# Altium footprint library EL.XXX.T01.PcbLib: 92 footprints (part 4 of 6)
Each footprint in its own frame and in the unit in brackets; x right, y up, seen from the top. Pads: shape width x height; smd on the part's side, far side on the other; paste and mask are expansions set on the pad; w line width, h text height; cw(c..) or ccw(c..) is an arc to the next point about the centre after c.
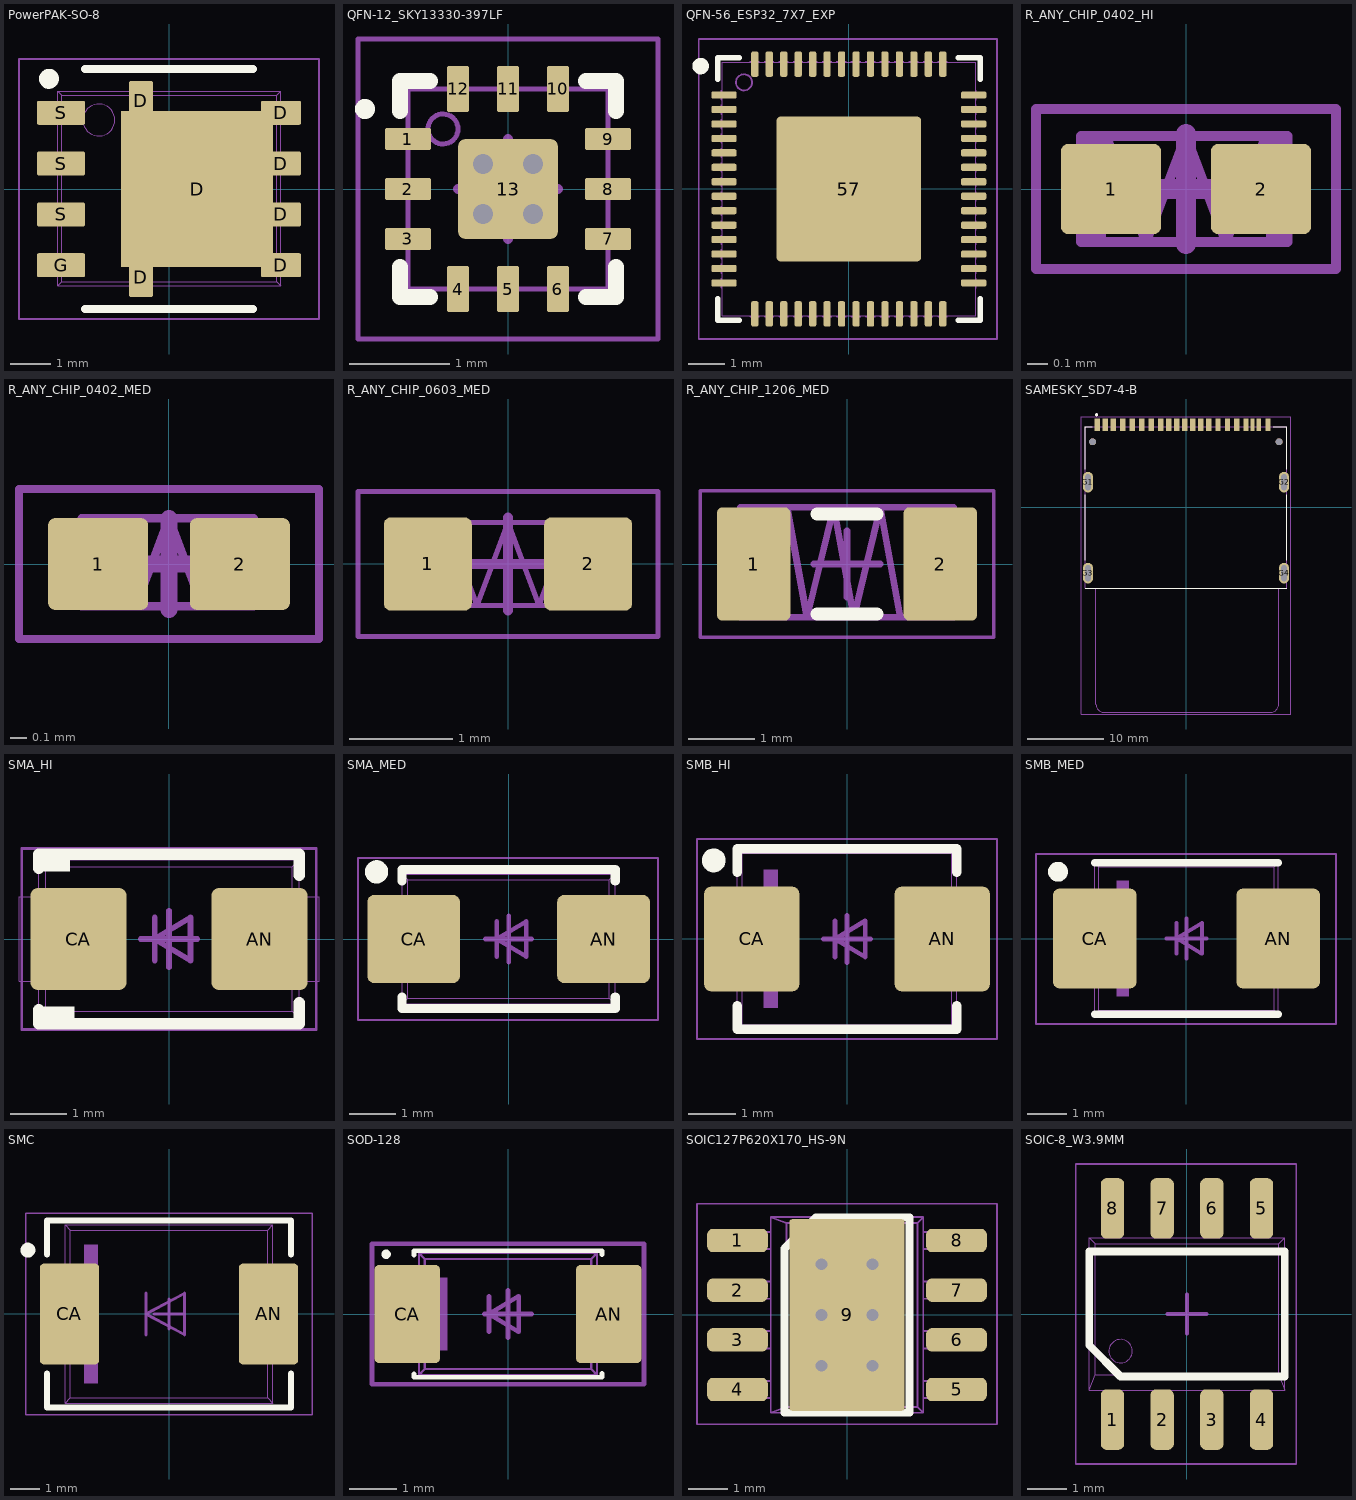
[diagram p3: the footprints below, top view; thin cyan lines are the x and y axes]

## PowerPAK-SO-8 [mm]
pads (11):
  rrect15% 0.6x1 smd mask+0.05: D(-0.7,-2.2) D(-0.7,2.2)
  rect 3.8x3.9 smd paste-2 mask+0.05: D(0.7,0)
  rrect15% 1x0.6 smd mask+0.05: D(2.8,-1.905) D(2.8,-0.635) D(2.8,0.635) D(2.8,1.905)
  rrect15% 1.2x0.6 smd mask+0.05: G(-2.7,-1.905) S(-2.7,-0.635) S(-2.7,0.635) S(-2.7,1.905)
Top Overlay:
  circle w0.25: c-3,2.755 r0.125
  lines w0.2: -2.1,-3 2.1,-3 ; -2.1,3 2.1,3
Top Paste:
  rectangle: 0.8,0.15 2.6,1.95
  rectangle: 0.8,-1.951 2.6,-0.151
  rectangle: -1.2,-1.95 0.6,-0.15
  rectangle: -1.2,0.15 0.6,1.95
Top Courtyard:
  lines w0.05: -3.75,-3.25 3.75,-3.25 3.75,3.25 -3.75,3.25 -3.75,-3.25
  lines w0.1: -0.5,0 0.5,0 ; 0,-0.5 0,0.5
Top Designator:
  text ".Designator" at -1.75,4.325 h0.5
Top Assembly:
  circle w0.025: c-1.756,1.725 r0.4
  lines w0.025: -2.775,-2.105 -2.875,-2.105 -2.875,-1.705 -2.775,-1.705 ; -2.775,-0.835 -2.875,-0.835 -2.875,-0.435 -2.775,-0.435 ; -2.775,0.435 -2.875,0.435 -2.875,0.835 -2.775,0.835 ; -2.775,1.705 -2.875,1.705 -2.875,2.105 -2.775,2.105 ; -2.725,2.4 -2.675,2.35 ; -0.725,-2.425 -0.725,-2.625 -0.475,-2.625 -0.475,-2.425 ; -0.725,2.45 -0.725,2.65 -0.475,2.65 -0.475,2.45 ; 2.75,-2.375 2.7,-2.325 ; 2.8,-2.105 2.9,-2.105 2.9,-1.705 2.8,-1.705 ; 2.8,-0.835 2.9,-0.835 2.9,-0.435 2.8,-0.435 ; 2.8,0.435 2.9,0.435 2.9,0.835 2.8,0.835 ; 2.8,1.705 2.9,1.705 2.9,2.105 2.8,2.105 ; -2.775,-2.425 2.8,-2.425 ; -2.775,-2.425 -2.775,2.45 ; -2.775,-2.425 -2.675,-2.325 ; -2.775,2.45 2.8,2.45 ; -2.775,2.45 -2.675,2.35 ; -2.675,-2.325 2.7,-2.325 ; -2.675,-2.325 -2.675,2.35 ; -2.675,2.35 2.7,2.35 ; 2.7,-2.325 2.7,2.35 ; 2.7,-2.325 2.8,-2.425 ; 2.7,2.35 2.8,2.45 ; 2.8,-2.425 2.8,2.45
Top Value:
  text ".Comment" at -1.75,3.725 h0.5
3D body "Si7141DP.STEP": height 1.05, standoff 0.01, extent -3.075,-2.575 3.075,2.575

## QFN-12_SKY13330-397LF [mm]
pads (13):
  rrect15% 0.46x0.22 smd mask+0.05: 1(-1,0.5) 2(-1,0) 3(-1,-0.5) 7(1,-0.5) 8(1,0) 9(1,0.5)
  rrect15% 0.22x0.46 smd mask+0.05: 4(-0.5,-1) 5(0,-1) 6(0.5,-1) 10(0.5,1) 11(0,1) 12(-0.5,1)
  rrect15% 1x1 smd paste-0.15 mask+0.05: 13(0,0)
via -0.25,-0.25 diameter 0.45 hole 0.2
via 0.25,-0.25 diameter 0.45 hole 0.2
via 0.25,0.25 diameter 0.45 hole 0.2
via -0.25,0.25 diameter 0.45 hole 0.2
Top Overlay:
  circle w0.1: c-1.43,0.8 r0.05
  lines w0.16: -1.08,-0.78 -1.08,-1.08 -0.78,-1.08 ; -1.08,0.78 -1.08,1.08 -0.78,1.08 ; 0.78,-1.08 1.08,-1.08 1.08,-0.78 ; 0.78,1.08 1.08,1.08 1.08,0.78
Bottom Solder:
  region: 0.425,-0.55 -0.425,-0.55 -0.431,-0.55 -0.443,-0.549 -0.455,-0.547 -0.467,-0.543 -0.478,-0.538 -0.489,-0.533 -0.499,-0.526 -0.509,-0.518 -0.518,-0.509 -0.525,-0.5 -0.532,-0.49 -0.538,-0.479 -0.543,-0.467 -0.546,-0.456 -0.549,-0.444 -0.55,-0.431 -0.55,-0.425 -0.55,0.425 -0.55,0.431 -0.549,0.443 -0.546,0.455 -0.543,0.467 -0.538,0.478 -0.532,0.489 -0.526,0.499 -0.518,0.509 -0.509,0.518 -0.5,0.525 -0.49,0.532 -0.479,0.538 -0.467,0.543 -0.456,0.546 -0.444,0.548 -0.432,0.55 -0.425,0.55 0.426,0.55 0.432,0.55 0.444,0.548 0.456,0.546 0.468,0.543 0.479,0.538 0.49,0.532 0.5,0.525 0.509,0.518 0.518,0.509 0.526,0.5 0.532,0.489 0.538,0.479 0.543,0.467 0.546,0.456 0.549,0.444 0.55,0.432 0.55,0.425 0.55,-0.425 0.55,-0.432 0.549,-0.444 0.546,-0.456 0.543,-0.468 0.538,-0.479 0.532,-0.49 0.526,-0.5 0.518,-0.509 0.509,-0.518 0.5,-0.526 0.489,-0.533 0.479,-0.538 0.467,-0.543 0.456,-0.547 0.444,-0.549 0.431,-0.55
Top Courtyard:
  lines w0.05: -1.5,-1.5 1.5,-1.5 1.5,1.5 -1.5,1.5 -1.5,-1.5
  lines w0.1: -0.5,0 0.5,0 ; 0,-0.5 0,0.5
Top Designator:
  text ".Designator" at -1.71,2.331 h0.5
Top Assembly:
  circle w0.05: c-0.65,0.6 r0.15
  lines w0.05: -1,-1 1,-1 1,1 -1,1 -1,-1
Top Value:
  text ".Comment" at -1.72,1.722 h0.5
3D body "QFN50P200X200X60_HS-13N.step": height 0.6, standoff 0, extent -1.02,-1.02 1.02,1.02

## QFN-56_ESP32_7X7_EXP [mm]
pads (57):
  rrect50% 0.7x0.2 smd paste+0 mask+0.05: 1(-3.454,2.6) 2(-3.454,2.2) 3(-3.454,1.8) 4(-3.454,1.4) 5(-3.454,1) 6(-3.454,0.6) 7(-3.454,0.2) 8(-3.454,-0.2) 9(-3.454,-0.6) 10(-3.454,-1) 11(-3.454,-1.4) 12(-3.454,-1.8) 13(-3.454,-2.2) 14(-3.454,-2.6) 29(3.454,-2.6) 30(3.454,-2.2) 31(3.454,-1.8) 32(3.454,-1.4) 33(3.454,-1) 34(3.454,-0.6) 35(3.454,-0.2) 36(3.454,0.2) 37(3.454,0.6) 38(3.454,1) 39(3.454,1.4) 40(3.454,1.8) 41(3.454,2.2) 42(3.454,2.6)
  rrect50% 0.2x0.7 smd paste+0 mask+0.05: 15(-2.6,-3.454) 16(-2.2,-3.454) 17(-1.8,-3.454) 18(-1.4,-3.454) 19(-1,-3.454) 20(-0.6,-3.454) 21(-0.2,-3.454) 22(0.2,-3.454) 23(0.6,-3.454) 24(1,-3.454) 25(1.4,-3.454) 26(1.8,-3.454) 27(2.2,-3.454) 28(2.6,-3.454) 43(2.6,3.454) 44(2.2,3.454) 45(1.8,3.454) 46(1.4,3.454) 47(1,3.454) 48(0.6,3.454) 49(0.2,3.454) 50(-0.2,3.454) 51(-0.6,3.454) 52(-1,3.454) 53(-1.4,3.454) 54(-1.8,3.454) 55(-2.2,3.454) 56(-2.6,3.454)
  rrect5% 4x4 smd paste-1.994 mask+0.05: 57(0,0)
Top Overlay:
  circle w0.254: c-4.1,3.4 r0.1
  lines w0.152: -3.632,-3.034 -3.632,-3.632 -3.034,-3.632 ; -3.632,3.034 -3.632,3.632 -3.034,3.632 ; 3.034,-3.632 3.632,-3.632 3.632,-3.034 ; 3.034,3.632 3.632,3.632 3.632,3.034
Top Paste:
  region: 1.907,-0.769 0.769,-0.769 0.769,-1.907 1.907,-1.907
  region: 1.907,0.569 0.769,0.569 0.769,-0.569 1.907,-0.569
  region: 1.907,1.907 0.769,1.907 0.769,0.769 1.907,0.769
  region: 0.569,-0.769 -0.569,-0.769 -0.569,-1.907 0.569,-1.907
  region: 0.569,0.569 -0.569,0.569 -0.569,-0.569 0.569,-0.569
  region: 0.569,1.907 -0.569,1.907 -0.569,0.769 0.569,0.769
  region: -0.769,-0.769 -1.907,-0.769 -1.907,-1.907 -0.769,-1.907
  region: -0.769,0.569 -1.907,0.569 -1.907,-0.569 -0.769,-0.569
  region: -0.769,1.907 -1.907,1.907 -1.907,0.769 -0.769,0.769
Top Courtyard:
  lines w0.05: -4.15,-4.15 4.1,-4.15 4.1,4.15 -4.15,4.15 -4.15,-4.15
  lines w0.1: -0.5,0 0.5,0 ; 0,-0.5 0,0.5
Top Designator:
  text ".Designator" at 0.223,-0.151 h0.5
Top Assembly:
  drawing of 229 lines, arcs and shapes, not listed
Top Value:
  text ".Comment" at 2.723,0.599 h0.5
3D body "QFN56_ESP32_7X7_EXP.step": height 0.89, standoff 0, extent -3.531,-3.531 3.531,3.531

## R_ANY_CHIP_0402_HI [mm]
pads (2):
  rrect15% 0.5x0.45 smd mask+0.05: 1(-0.375,0) 2(0.375,0)
Top Courtyard:
  lines w0.05: -0.75,-0.4 -0.75,0.4 0.75,0.4 0.75,-0.4 -0.75,-0.4
  lines w0.1: -0.275,0 0.275,0 ; 0,-0.275 0,0.275
Top Designator:
  text ".Designator" at -1.9,1.35 h0.5
Top Assembly:
  region: 0.525,0.265 0.4,0.265 0.4,-0.265 0.525,-0.265
  rectangle: -0.525,-0.265 -0.4,0.265
  lines w0.05: -0.4,0.265 -0.2,-0.265 0,0.265 0.2,-0.265 0.4,0.265 ; -0.525,-0.265 0.508,-0.265 0.508,0.265 -0.525,0.265 -0.525,-0.265
Top Value:
  text ".Comment" at -1.9,0.7 h0.5
3D body "RC0402.STEP": height 0.4, standoff 0, extent -0.525,-0.275 0.525,0.275

## R_ANY_CHIP_0402_MED [mm]
pads (2):
  rrect15% 0.6x0.55 smd mask+0.05: 1(-0.425,0) 2(0.425,0)
Top Courtyard:
  lines w0.05: -0.9,-0.45 -0.9,0.45 0.9,0.45 0.9,-0.45 -0.9,-0.45
  lines w0.1: -0.275,0 0.275,0 ; 0,-0.275 0,0.275
Top Designator:
  text ".Designator" at -1.85,1.25 h0.5
Top Assembly:
  region: 0.525,0.275 0.4,0.275 0.4,-0.254 0.525,-0.254
  rectangle: -0.525,-0.254 -0.4,0.275
  lines w0.05: -0.4,0.275 -0.2,-0.254 0,0.275 0.2,-0.254 0.4,0.275 ; -0.525,-0.254 0.508,-0.254 0.508,0.275 -0.525,0.275 -0.525,-0.254
Top Value:
  text ".Comment" at -1.85,0.65 h0.5
3D body "RC0402.STEP": height 0.4, standoff 0, extent -0.525,-0.275 0.525,0.275

## R_ANY_CHIP_0603_MED [mm]
pads (2):
  rrect15% 0.85x0.9 smd mask+0.05: 1(-0.775,0) 2(0.775,0)
Top Courtyard:
  lines w0.05: -1.45,-0.7 1.45,-0.7 1.45,0.7 -1.45,0.7 -1.45,-0.7
  lines w0.1: -0.45,0 0.45,0 ; 0,-0.45 0,0.45
Top Designator:
  text ".Designator" at -1.8,1.55 h0.5
Top Assembly:
  region: 0.925,0.4 0.7,0.4 0.7,-0.4 0.925,-0.4
  rectangle: -0.925,-0.4 -0.7,0.4
  lines w0.05: -0.6,0.4 -0.3,-0.4 0,0.4 0.3,-0.4 0.6,0.4 ; -0.9,-0.4 0.9,-0.4 0.9,0.4 -0.9,0.4 -0.9,-0.4
Top Value:
  text ".Comment" at -1.8,0.95 h0.5
3D body "RC0603.STEP": height 0.55, standoff 0, extent -0.85,-0.45 0.85,0.45

## R_ANY_CHIP_1206_MED [mm]
pads (2):
  rrect15% 1.1x1.7 smd: 1(-1.4,0) 2(1.4,0)
Top Overlay:
  lines w0.2: -0.45,-0.75 0.45,-0.75 ; -0.45,0.75 0.45,0.75
Top Courtyard:
  lines w0.05: -2.2,-1.1 2.2,-1.1 2.2,1.1 -2.2,1.1 -2.2,-1.1
  lines w0.1: -0.5,0 0.5,0 ; 0,-0.5 0,0.5
Top Designator:
  text ".Designator" at -1.8,1.95 h0.5
Top Assembly:
  rectangle: -1.6,-0.8 -1,0.85
  region: 1.6,0.85 1,0.85 1,-0.8 1.6,-0.8
  lines w0.1: -0.9,0.85 -0.6,-0.8 -0.2,0.85 0.1,-0.8 0.5,0.85 0.8,-0.8 ; -1.6,-0.8 -1.6,0.85 1.6,0.85 1.6,-0.8 -1.6,-0.8
Top Value:
  text ".Comment" at -1.8,1.3 h0.5
3D body "RC1206.STEP": height 0.65, standoff 0, extent -1.6,-0.85 1.6,0.85

## SAMESKY_SD7-4-B [mm]
height 5.87
pads (27):
  oval 1.3x2.7 hole 0.7 slot 2.1 at 90 deg: G1(-12.875,3.325) G2(12.875,3.325) G3(-12.875,-8.625) G4(12.875,-8.625)
  rect 0.7x1.65 smd: P1(-11.65,10.85) P2(-10.6,10.85) P3(-9.55,10.85) P4(-8.3,10.85) P5(-7.05,10.85) P6(-5.8,10.85) P7(-4.55,10.85) P8(-3.3,10.85) P9(-2.25,10.85) P10(-1.2,10.85) P11(-0.15,10.85) P12(0.9,10.85) P13(1.95,10.85) P14(3,10.85) P15(4.2,10.85) P16(5.45,10.85) P17(6.65,10.85) P21(10.78,10.85)
  rect 0.6x1.65 smd: P18(7.88,10.85) P20(9.58,10.85)
  rect 0.5x1.65 smd: P19(8.73,10.85)
  round 0.9 hole 0.9 unplated: ""(-12.27,8.625) ""(12.23,8.625)
Top Overlay:
  circle w0.2: c-11.75,12.175 r0.1
  lines w0.127: -13.225,-10.625 13.225,-10.625 ; -13.225,-6.955 -13.225,1.655 ; -13.225,4.995 -13.225,10.625 -12.32,10.625 ; 11.45,10.625 13.225,10.625 13.225,4.995 ; 13.225,-6.955 13.225,1.655
Mechanical 13:
  circle w0.2: c-11.75,12.175 r0.1
  lines w0.127: -11.825,-10.625 12.175,-10.625 ; -11.825,-10.625 -13.225,-10.625 -13.225,10.625 13.225,10.625 13.225,-10.625 12.175,-10.625 ; -11.825,-10.625 -11.825,-25.875 ccw(c-10.825,-25.875) -10.825,-26.875 11.175,-26.875 ccw(c11.175,-25.875) 12.175,-25.875 12.175,-10.625
Mechanical 15:
  lines w0.05: -13.775,-27.125 13.775,-27.125 13.775,11.925 -13.775,11.925 -13.775,-27.125
3D body: height 2.3, standoff 0, extent -13.335,-10.668 13.335,10.668

## SMA_HI [mm]
pads (2):
  rrect15% 1.7x1.8 smd mask+0.05: AN(1.6,0) CA(-1.6,0)
Top Overlay:
  region: -2.3,1.2 -1.75,1.2 -1.75,1.425 -2.3,1.425
  region: -2.225,-1.45 -1.675,-1.45 -1.675,-1.2 -2.225,-1.2
  lines w0.2: -2.3,-1.25 -2.3,-1.5 2.3,-1.5 2.3,-1.125 ; -2.3,1.25 -2.3,1.5 2.3,1.5 2.3,1.125
Top Courtyard:
  lines w0.05: -2.6,-1.6 -2.6,1.6 2.6,1.6 2.6,-1.6 -2.6,-1.6
  lines w0.1: -0.5,0 0.5,0 ; 0,-0.5 0,0.5
Top Designator:
  text ".Designator" at -1.8,2.375 h0.5
Top Assembly:
  region: -1.75,0.9 -1.75,-0.9 -1.45,-0.9 -1.45,0.9
  lines w0.01: -2.3,-0.75 -2.65,-0.75 -2.65,0.75 -2.3,0.75 ; 2.3,-0.75 2.65,-0.75 2.65,0.75 2.3,0.75 ; -2.3,-1.4 -2.3,1.4 ; -2.3,-1.4 2.3,-1.4 ; -2.3,-1.4 -2.175,-1.275 ; -2.3,1.4 2.3,1.4 ; -2.3,1.4 -2.175,1.275 ; -2.175,-1.275 2.175,-1.275 ; -2.175,-1.275 -2.175,1.275 ; -2.175,1.275 2.175,1.275 ; 2.175,-1.275 2.3,-1.4 ; 2.175,-1.275 2.175,1.275 ; 2.175,1.275 2.3,1.4 ; 2.3,-1.4 2.3,1.4
  lines w0.1: -0.254,-0.381 -0.254,0.381 ; -0.254,0 0.381,-0.381 0.381,0.381 -0.254,0
Top Value:
  text ".Comment" at -1.8,1.775 h0.5
3D body "SK56A-LTP_MED.step": height 2.44, standoff 0, extent -2.52,-1.46 2.52,1.46

## SMA_MED [mm]
pads (2):
  rrect15% 2x1.9 smd mask+0.05: AN(2.05,0) CA(-2.05,0)
Top Overlay:
  circle w0.25: c-2.85,1.45 r0.125
  lines w0.2: -2.3,-1.25 -2.3,-1.5 2.3,-1.5 2.3,-1.25 ; -2.3,1.25 -2.3,1.5 2.3,1.5 2.3,1.25
Top Courtyard:
  lines w0.05: -3.25,-1.75 -3.25,1.75 3.225,1.75 3.225,-1.75 -3.25,-1.75
  lines w0.1: -0.5,0 0.5,0 ; 0,-0.5 0,0.5
Top Designator:
  text ".Designator" at -2,2.6 h0.5
Top Assembly:
  region: -1.75,0.9 -1.75,-0.9 -1.45,-0.9 -1.45,0.9
  lines w0.01: -2.3,-0.75 -2.65,-0.75 -2.65,0.75 -2.3,0.75 ; 2.3,-0.75 2.65,-0.75 2.65,0.75 2.3,0.75 ; -2.3,-1.4 -2.3,1.4 ; -2.3,-1.4 2.3,-1.4 ; -2.3,-1.4 -2.175,-1.275 ; -2.3,1.4 2.3,1.4 ; -2.3,1.4 -2.175,1.275 ; -2.175,-1.275 2.175,-1.275 ; -2.175,-1.275 -2.175,1.275 ; -2.175,1.275 2.175,1.275 ; 2.175,-1.275 2.3,-1.4 ; 2.175,-1.275 2.175,1.275 ; 2.175,1.275 2.3,1.4 ; 2.3,-1.4 2.3,1.4
  lines w0.1: -0.254,-0.381 -0.254,0.381 ; -0.254,0 0.381,0.381 0.381,-0.381 -0.254,0
Top Value:
  text ".Comment" at -2,1.975 h0.5
3D body "SK56A-LTP_MED.step": height 2.44, standoff 0, extent -2.52,-1.46 2.52,1.46

## SMB_HI [mm]
pads (2):
  rrect15% 2x2.2 smd mask+0.05: AN(2,0) CA(-2,0)
Top Overlay:
  circle w0.25: c-2.8,1.65 r0.125
  lines w0.2: -2.3,-1.4 -2.3,-1.9 2.3,-1.9 2.3,-1.4 ; -2.3,1.4 -2.3,1.9 2.3,1.9 2.3,1.4
Top Courtyard:
  lines w0.05: -3.15,-2.1 -3.15,2.1 3.15,2.1 3.15,-2.1 -3.15,-2.1
  lines w0.1: -0.5,0 0.5,0 ; 0,-0.5 0,0.5
Top Designator:
  text ".Designator" at -1.725,3.025 h0.5
Top Assembly:
  region: -1.75,1.45 -1.75,-1.446 -1.45,-1.446 -1.45,1.45
  lines w0.025: -2.3,-1 -2.7,-1 -2.7,1 -2.3,1 ; 2.3,-1 2.7,-1 2.7,1 2.3,1 ; -2.3,-1.9 -2.3,1.9 ; -2.3,-1.9 2.3,-1.9 ; -2.3,-1.9 -2.2,-1.8 ; -2.3,1.9 2.3,1.9 ; -2.3,1.9 -2.2,1.8 ; -2.2,-1.8 2.2,-1.8 ; -2.2,-1.8 -2.2,1.8 ; -2.2,1.8 2.2,1.8 ; 2.2,-1.8 2.3,-1.9 ; 2.2,-1.8 2.2,1.8 ; 2.2,1.8 2.3,1.9 ; 2.3,-1.9 2.3,1.9
  lines w0.1: -0.25,-0.379 -0.25,0.383 ; -0.25,0.002 0.385,-0.379 0.385,0.383 -0.25,0.002
Top Value:
  text ".Comment" at -1.725,2.375 h0.5
3D body "DO214AA.STEP": height 2.65, standoff 0, extent -2.8,-1.95 2.8,1.95

## SMB_MED [mm]
pads (2):
  rrect15% 2.1x2.5 smd mask+0.05: AN(2.3,0) CA(-2.3,0)
Top Overlay:
  circle w0.25: c-3.225,1.675 r0.125
  lines w0.2: -2.3,-1.9 2.3,-1.9 ; -2.3,1.9 2.3,1.9
Top Courtyard:
  lines w0.05: -3.775,-2.15 3.75,-2.15 3.75,2.125 -3.775,2.125 -3.775,-2.15
  lines w0.1: -0.5,0.002 0.5,0.002 ; 0,-0.498 0,0.502
Top Designator:
  text ".Designator" at 0.5,-0.774 h0.5
Top Assembly:
  region: -1.75,1.45 -1.75,-1.446 -1.45,-1.446 -1.45,1.45
  lines w0.025: -2.3,-1 -2.7,-1 -2.7,1 -2.3,1 ; 2.3,-1 2.7,-1 2.7,1 2.3,1 ; -2.3,-1.9 -2.3,1.9 ; -2.3,-1.9 2.3,-1.9 ; -2.3,-1.9 -2.2,-1.8 ; -2.3,1.9 2.3,1.9 ; -2.3,1.9 -2.2,1.8 ; -2.2,-1.8 2.2,-1.8 ; -2.2,-1.8 -2.2,1.8 ; -2.2,1.8 2.2,1.8 ; 2.2,-1.8 2.3,-1.9 ; 2.2,-1.8 2.2,1.8 ; 2.2,1.8 2.3,1.9 ; 2.3,-1.9 2.3,1.9
  lines w0.1: -0.25,-0.379 -0.25,0.383 ; -0.25,0.002 0.385,-0.379 0.385,0.383 -0.25,0.002
Top Value:
  text ".Comment" at 0.75,1.226 h0.5
3D body "DO214AA.STEP": height 2.65, standoff 0, extent -2.8,-1.95 2.8,1.95

## SMC [mm]
pads (2):
  rrect15% 2x3.4 smd: AN(3.35,0) CA(-3.35,0)
Top Overlay:
  circle w0.25: c-4.75,2.15 r0.125
  lines w0.2: -4.1,-2 -4.1,-3.15 4.1,-3.15 4.1,-2 ; -4.1,2 -4.1,3.15 4.1,3.15 4.1,2
Top Courtyard:
  lines w0.05: -4.825,-3.4 4.825,-3.4 4.825,3.4 -4.825,3.4 -4.825,-3.4
  lines w0.1: -0.5,0 0.5,0 ; 0,-0.5 0,0.5
Top Designator:
  text ".Designator" at -2.025,4.5 h0.5
Top Assembly:
  region: -2.85,2.325 -2.85,-2.325 -2.4,-2.325 -2.4,2.325
  lines w0.01: -3.5,-1.6 -4,-1.6 -4,1.6 -3.5,1.6 ; 3.5,-1.6 4,-1.6 4,1.6 3.5,1.6 ; -3.5,-3 -3.325,-2.825 ; -3.5,-3 3.5,-3 ; -3.5,-3 -3.5,3 ; -3.5,3 -3.325,2.825 ; -3.5,3 3.5,3 ; -3.325,-2.825 3.325,-2.825 ; -3.325,-2.825 -3.325,2.825 ; -3.325,2.825 3.325,2.825 ; 3.325,-2.825 3.325,2.825 ; 3.325,-2.825 3.5,-3 ; 3.325,2.825 3.5,3 ; 3.5,-3 3.5,3
  lines w0.1: -0.775,-0.7 -0.775,0.7 ; -0.775,0 0.525,-0.7 0.525,0.7 -0.775,0
Top Value:
  text ".Comment" at -2.025,3.875 h0.5
3D body "DO-214AB.STEP": height 2.45, standoff 0, extent -3.9,-2.95 3.9,2.95

## SOD-128 [mm]
pads (2):
  rrect15% 1.4x2.1 smd mask+0.05: AN(2.15,0) CA(-2.15,0)
Top Overlay:
  circle w0.1: c-2.6,1.275 r0.05
  lines w0.1: -2.007,-1.279 -2.007,-1.346 2.007,-1.346 2.007,-1.27 ; -2.007,1.254 -2.007,1.346 2.007,1.346 2.007,1.269
Top Courtyard:
  lines w0.1: -0.5,0 0.5,0 ; 0,-0.5 0,0.5 ; -2.9,-1.5 2.9,-1.5 2.9,1.5 -2.9,1.5 -2.9,-1.5
Top Designator:
  text ".Designator" at -1.875,2.425 h0.5
Top Assembly:
  region: -1.625,-0.775 -1.3,-0.775 -1.3,0.775 -1.625,0.775
  lines w0.05: -1.9,-0.9 -2.4,-0.9 -2.4,0.9 -1.9,0.9 ; 1.9,-0.9 2.4,-0.9 2.4,0.9 1.9,0.9 ; -1.9,-1.3 -1.775,-1.175 ; -1.9,-1.3 1.9,-1.3 ; -1.9,-1.3 -1.9,1.3 ; -1.9,1.3 -1.775,1.175 ; -1.9,1.3 1.9,1.3 ; -1.775,-1.175 -1.775,1.175 ; -1.775,-1.175 1.775,-1.175 ; -1.775,1.175 1.775,1.175 ; 1.775,-1.175 1.775,1.175 ; 1.775,-1.175 1.9,-1.3 ; 1.775,1.175 1.9,1.3 ; 1.9,-1.3 1.9,1.3
  lines w0.1: -0.406,-0.381 -0.406,0.381 ; -0.406,0 0.229,-0.381 0.229,0.381 -0.406,0
Top Value:
  text ".Comment" at -1.875,1.775 h0.5
3D body "SOD128.STEP": height 1.1, standoff -0.01, extent -2.5,-1.35 2.5,1.35

## SOIC127P620X170_HS-9N [mm]
pads (9):
  rrect50% 1.55x0.6 smd mask+0.05: 1(-2.8,1.905) 2(-2.8,0.635) 3(-2.8,-0.635) 4(-2.8,-1.905) 5(2.8,-1.905) 6(2.8,-0.635) 7(2.8,0.635) 8(2.8,1.905)
  rrect5% 2.95x4.9 smd paste-1.9 mask-1.9: 9(0,0)
via -0.65,1.3 diameter 0.6 hole 0.3
via 0.65,1.3 diameter 0.6 hole 0.3
via -0.65,-1.3 diameter 0.6 hole 0.3
via 0.65,-1.3 diameter 0.6 hole 0.3
via -0.65,0 diameter 0.6 hole 0.3
via 0.65,0 diameter 0.6 hole 0.3
Top Overlay:
  lines w0.2: -1.6,-2.5 1.6,-2.5 1.6,2.5 -0.8,2.5 -1.6,1.7 -1.6,-2.5
Top Paste:
  rectangle: -1.2,-1.55 1.2,1.55
Top Solder:
  rectangle: -1.2,-1.55 1.2,1.55
Top Courtyard:
  lines w0.05: -3.835,-2.794 -3.835,2.845 3.835,2.845 3.835,-2.794 -3.835,-2.794
  lines w0.1: -0.5,0 0.5,0 ; 0,-0.5 0,0.5
Top Designator:
  text ".Designator" at -2.177,3.698 h0.5
Top Assembly:
  circle w0.05: c-0.95,1.7 r0.3
  lines w0.05: -2.46,-2.125 -2.46,-1.685 ; -2.46,-0.855 -2.46,-0.415 ; -2.46,0.415 -2.46,0.855 ; -2.46,1.685 -2.46,2.125 ; -1.95,-2.125 -3.05,-2.125 -3.05,-1.685 -1.95,-1.685 ; -1.95,-0.855 -3.05,-0.855 -3.05,-0.415 -1.95,-0.415 ; -1.95,0.415 -3.05,0.415 -3.05,0.855 -1.95,0.855 ; -1.95,1.685 -3.05,1.685 -3.05,2.125 -1.95,2.125 ; 1.95,-2.125 3.05,-2.125 3.05,-1.685 1.95,-1.685 ; 1.95,-0.855 3.05,-0.855 3.05,-0.415 1.95,-0.415 ; 1.95,0.415 3.05,0.415 3.05,0.855 1.95,0.855 ; 1.95,1.685 3.05,1.685 3.05,2.125 1.95,2.125 ; 2.46,-2.125 2.46,-1.685 ; 2.46,-0.855 2.46,-0.415 ; 2.46,0.415 2.46,0.855 ; 2.46,1.685 2.46,2.125 ; -1.95,-2.5 -1.55,-2.35 ; -1.95,-2.5 -1.95,2.5 ; -1.95,-2.5 1.95,-2.5 ; -1.95,2.5 -1.55,2.35 ; -1.95,2.5 1.95,2.5 ; -1.55,-2.35 -1.55,2.35 ; -1.55,-2.35 1.8,-2.35 ; -1.55,2.35 1.8,2.35 ; 1.8,-2.35 1.95,-2.5 ; 1.8,-2.35 1.8,2.35 ; 1.8,2.35 1.95,2.5 ; 1.95,-2.5 1.95,2.5
Top Value:
  text ".Comment" at -2.206,3.075 h0.5
3D body "SOIC127P620X170_HS-9N.step": height 1.7, standoff 0, extent -3.1,-2.5 3.1,2.5

## SOIC-8_W3.9MM [mm]
pads (8):
  rrect50% 0.6x1.55 smd mask+0.05: 1(-1.905,-2.7) 2(-0.635,-2.7) 3(0.635,-2.7) 4(1.905,-2.7) 5(1.905,2.7) 6(0.635,2.7) 7(-0.635,2.7) 8(-1.905,2.7)
Top Overlay:
  lines w0.2: -2.5,-0.8 -2.5,1.6 2.5,1.6 2.5,-1.6 -1.7,-1.6 -2.5,-0.8
Top Courtyard:
  lines w0.05: -2.845,-3.835 2.794,-3.835 2.794,3.835 -2.845,3.835 -2.845,-3.835
  lines w0.1: -0.5,0 0.5,0 ; 0,-0.5 0,0.5
Top Designator:
  text ".Designator" at -1.626,4.75 h0.5
Top Assembly:
  circle w0.025: c-1.7,-0.95 r0.3
  lines w0.025: -2.125,-2.46 -1.685,-2.46 ; -2.125,-1.95 -2.125,-3.05 -1.685,-3.05 -1.685,-1.95 ; -2.125,1.95 -2.125,3.05 -1.685,3.05 -1.685,1.95 ; -2.125,2.46 -1.685,2.46 ; -0.855,-2.46 -0.415,-2.46 ; -0.855,-1.95 -0.855,-3.05 -0.415,-3.05 -0.415,-1.95 ; -0.855,1.95 -0.855,3.05 -0.415,3.05 -0.415,1.95 ; -0.855,2.46 -0.415,2.46 ; 0.415,-2.46 0.855,-2.46 ; 0.415,-1.95 0.415,-3.05 0.855,-3.05 0.855,-1.95 ; 0.415,1.95 0.415,3.05 0.855,3.05 0.855,1.95 ; 0.415,2.46 0.855,2.46 ; 1.685,-2.46 2.125,-2.46 ; 1.685,-1.95 1.685,-3.05 2.125,-3.05 2.125,-1.95 ; 1.685,1.95 1.685,3.05 2.125,3.05 2.125,1.95 ; 1.685,2.46 2.125,2.46 ; -2.5,-1.95 2.5,-1.95 ; -2.5,-1.95 -2.5,1.95 ; -2.5,-1.95 -2.35,-1.55 ; -2.5,1.95 2.5,1.95 ; -2.5,1.95 -2.35,1.8 ; -2.35,-1.55 2.35,-1.55 ; -2.35,-1.55 -2.35,1.8 ; -2.35,1.8 2.35,1.8 ; 2.35,-1.55 2.35,1.8 ; 2.35,-1.55 2.5,-1.95 ; 2.35,1.8 2.5,1.95 ; 2.5,-1.95 2.5,1.95
Top Value:
  text ".Comment" at -1.651,4.064 h0.5
3D body "SOIC-8_127P600X175-8N.step": height 1.75, standoff 0, extent -2.5,-3 2.5,3